# Altium schematic symbol library Diodes.SchLib: 12 symbols
Pins are listed as number, name and electrical type; pins without a type are passive.

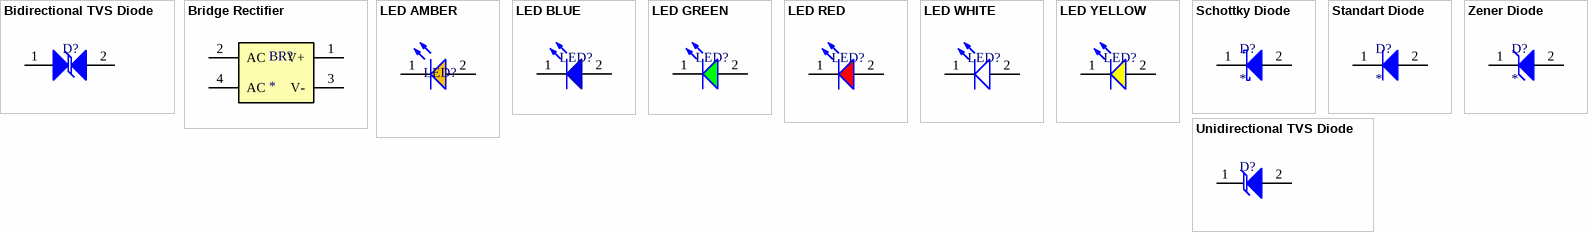
[diagram p0: symbols Bidirectional TVS Diode to Zener Diode]

## Bidirectional TVS Diode
designator D?
Package / Case: *
pins: 1 K, 2 A

## Bridge Rectifier
designator BR?
Manufacturer Part Number: *; Manufacturer: *; Package / Case: *; Link: *; Datasheet: *; Mounting Type: *; Category: *
footprint DF-S
pins: 1 V+, 2 AC, 3 V-, 4 AC

## LED AMBER
designator LED?
LED
footprint LED AMBER 0603
footprint LED AMBER 0805
footprint LED AMBER REVERSE 0603
footprint LED AMBER REVERSE 0805
footprint LED TH - 2.54
footprint 2-PLCC
pins: 1 K, 2 A

## LED BLUE
designator LED?
LED
footprint LED BLUE 0603
footprint LED BLUE 0805
footprint LED TH - 2.54
footprint 2-PLCC
pins: 1 K, 2 A

## LED GREEN
designator LED?
LED
footprint LED GREEN 0603
footprint LED GREEN 0805
footprint LED GREEN REVERSE 0603
footprint LED TH - 2.54
footprint 2-PLCC
footprint LED 5mm
footprint LED GREEN 1206
pins: 1 K, 2 A

## LED RED
designator LED?
LED
footprint LED RED 0603
footprint LED RED 0805
footprint LED TH - 2.54
footprint 2-PLCC
footprint LED 3mm
footprint LED 5mm
footprint LED RED 1206
footprint LED 3mm 90 DEGREE
pins: 1 K, 2 A

## LED WHITE
designator LED?
LED
footprint LED WHITE 0603
footprint LED WHITE 0805
footprint 3623 LED PKG
footprint LED TH - 2.54
footprint 2-PLCC
footprint LED 3mm
footprint LED WHITE 1206
footprint LED WHITE REVERSE 0603
pins: 1 K, 2 A

## LED YELLOW
designator LED?
LED
footprint LED YELLOW 0603
footprint LED YELLOW 0805
footprint LED TH - 2.54
footprint 2-PLCC
footprint LED YELLOW 1206
pins: 1 K, 2 A

## Schottky Diode
designator D?
Manufacturer Part Number: *
pins: 1 K, 2 A

## Standart Diode
designator D?
Manufacturer Part Number: *
pins: 1 K, 2 A

## Unidirectional TVS Diode
designator D?
pins: 1 K, 2 A

## Zener Diode
designator D?
Manufacturer Part Number: *
pins: 1 K, 2 A